# Altium integrated library Maxim Real-Time Clocks (RTCs).IntLib: 548 symbols (part 1 of 13)
Pins are listed as number, name and electrical type; pins without a type are passive.

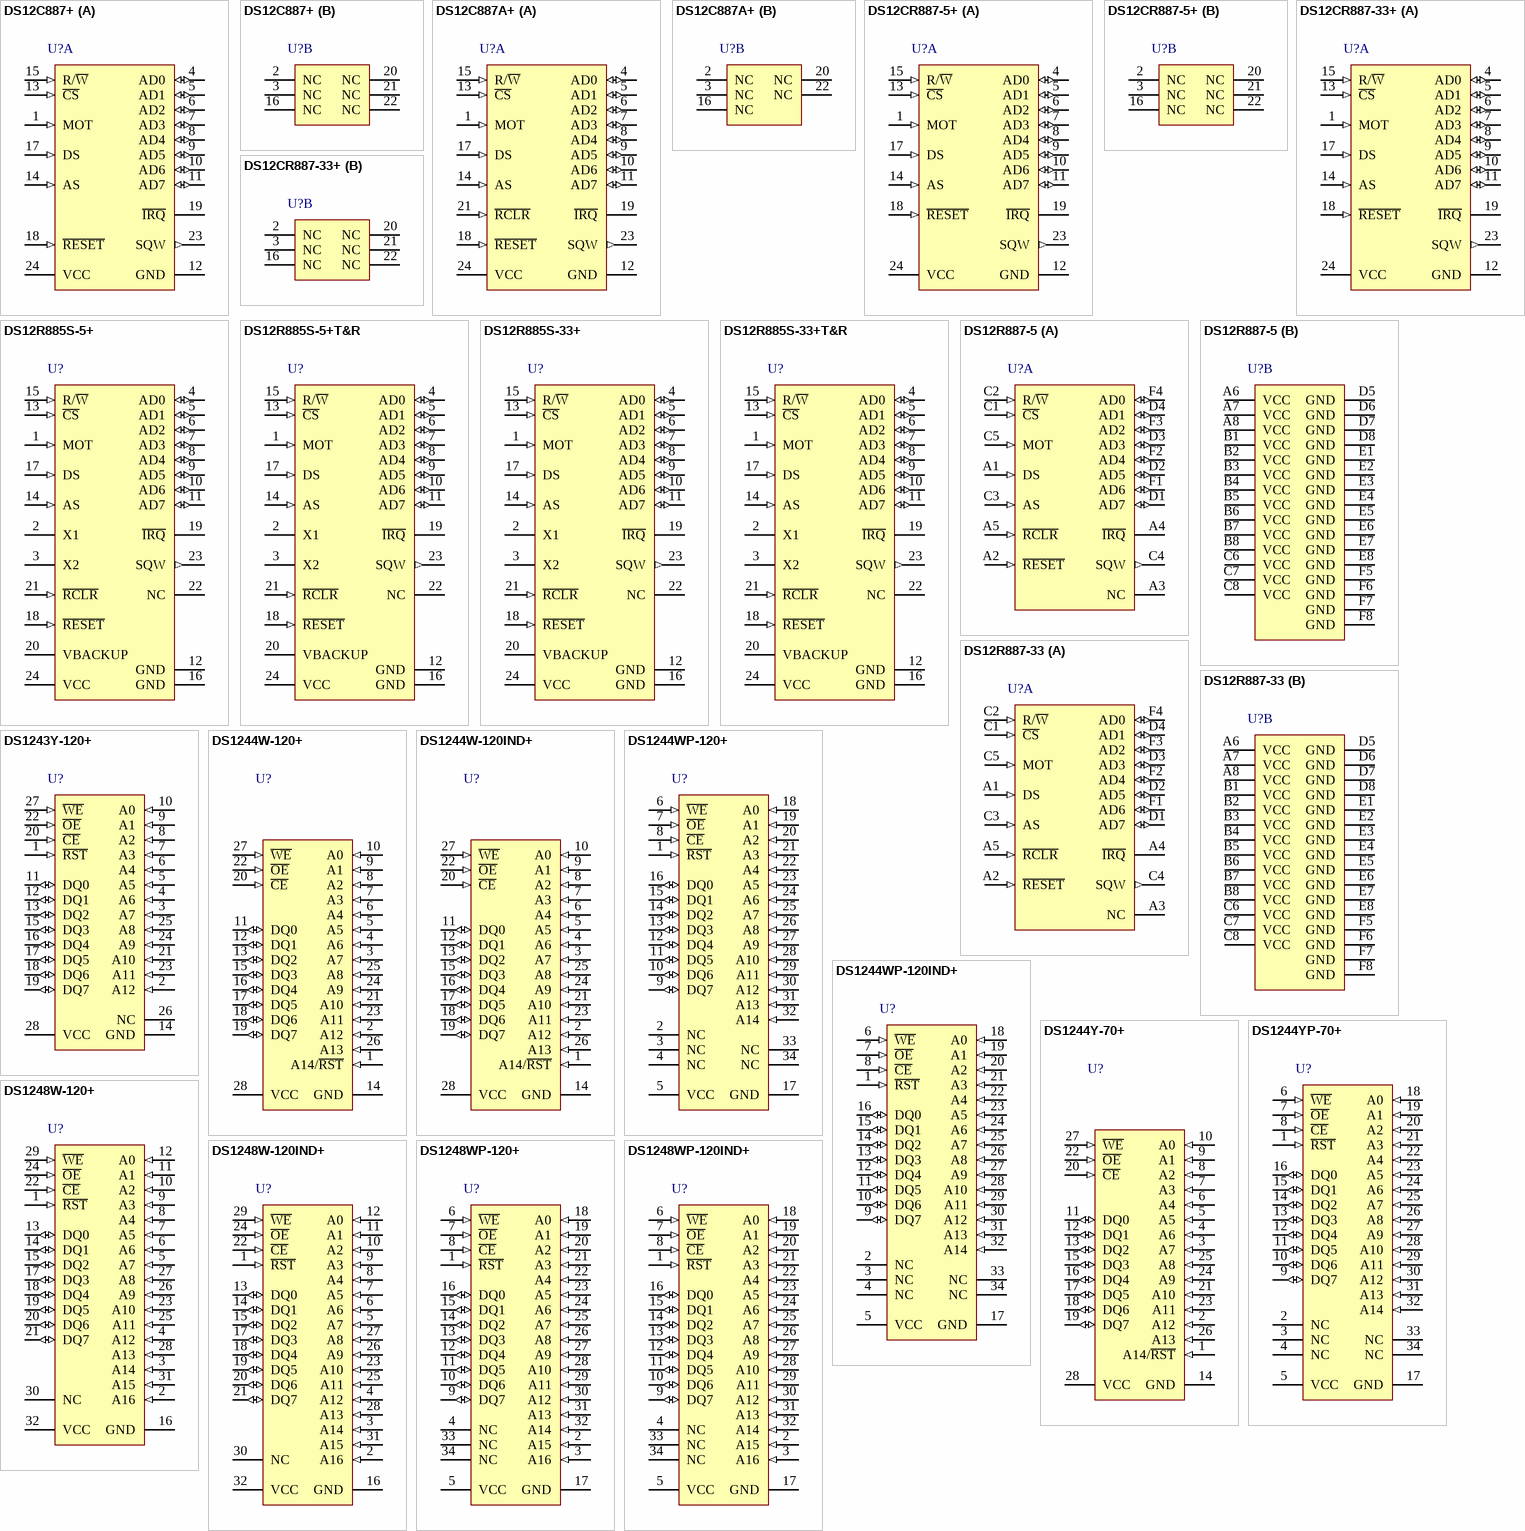
[diagram p0: symbols DS12C887+ to DS1248WP-120IND+]

## DS12C887+
designator U?
Real-Time Clock, Integrated XTAL, 113 Byte Battery-Backed RAM, 24-Pin EDIP, 0 to 70 degC, Pb-Free; DatasheetVersion: rev4, Apr-2010; PackageVersion: revA, Feb-2009; PackageReference: MDP24+1; PackageDescription: 24-Pin Encapsulated Dual-In-Line Module, 2.54 mm Pitch, EDIP, 720-mil, Pb-Free; ComponentLink1Description: Manufacturer URL; ComponentLink1URL: http://www.maxim-ic.com; ComponentLink2Description: Datasheet; ComponentLink2URL: http://datasheets.maxim-ic.com/en/ds/DS12885-DS12C887A.pdf; ComponentLink3Description: Package Specification; ComponentLink3URL: http://pdfserv.maxim-ic.com/package_dwgs/21-0241.PDF
footprint MDP24+1 (DIP; 24 Rectangular Pins, Body 33.8x17.8mm, Row Space 15.24mm, Pitch 2.54mm)
part A pins: 1 MOT (in), 4 AD0 (io), 5 AD1 (io), 6 AD2 (io), 7 AD3 (io), 8 AD4 (io), 9 AD5 (io), 10 AD6 (io), 11 AD7 (io), 12 GND (power), 13 ~{CS} (in), 14 AS (in), 15 R/~{W} (in), 17 DS (in), 18 ~{RESET} (in), 19 ~{IRQ} (hiz), 23 SQW (out), 24 VCC (power)
part B pins: 2 NC, 3 NC, 16 NC, 20 NC, 21 NC, 22 NC

## DS12C887A+
designator U?
Real-Time Clock, Integrated XTAL, 113 Byte Battery-Backed RAM, 24-Pin EDIP, 0 to 70 degC, Pb-Free; DatasheetVersion: rev4, Apr-2010; PackageVersion: revA, Feb-2009; PackageReference: MDP24+1; PackageDescription: 24-Pin Encapsulated Dual-In-Line Module, 2.54 mm Pitch, EDIP, 720-mil, Pb-Free; ComponentLink1Description: Manufacturer URL; ComponentLink1URL: http://www.maxim-ic.com; ComponentLink2Description: Datasheet; ComponentLink2URL: http://datasheets.maxim-ic.com/en/ds/DS12885-DS12C887A.pdf; ComponentLink3Description: Package Specification; ComponentLink3URL: http://pdfserv.maxim-ic.com/package_dwgs/21-0241.PDF
footprint MDP24+1 (DIP; 24 Rectangular Pins, Body 33.8x17.8mm, Row Space 15.24mm, Pitch 2.54mm)
part A pins: 1 MOT (in), 4 AD0 (io), 5 AD1 (io), 6 AD2 (io), 7 AD3 (io), 8 AD4 (io), 9 AD5 (io), 10 AD6 (io), 11 AD7 (io), 12 GND (power), 13 ~{CS} (in), 14 AS (in), 15 R/~{W} (in), 17 DS (in), 18 ~{RESET} (in), 19 ~{IRQ} (hiz), 21 ~{RCLR} (in), 23 SQW (out), 24 VCC (power)
part B pins: 2 NC, 3 NC, 16 NC, 20 NC, 22 NC

## DS12CR887-5+
designator U?
Real-Time Clock with Constant-Voltage Trickle Charger, 5.0V, 24-Pin EDIP, -40 to 85 degC, Pb-Free; DatasheetVersion: rev6, Apr-2010; PackageVersion: revA, Feb-2009; PackageReference: MDP24+1; PackageDescription: 24-Pin Encapsulated Dual-In-Line Module, 2.54 mm Pitch, EDIP, 720-mil, Pb-Free; ComponentLink1Description: Manufacturer URL; ComponentLink1URL: http://www.maxim-ic.com; ComponentLink2Description: Datasheet; ComponentLink2URL: http://datasheets.maxim-ic.com/en/ds/DS12CR887-DS12R887.pdf; ComponentLink3Description: Package Specification; ComponentLink3URL: http://pdfserv.maxim-ic.com/package_dwgs/21-0241.PDF
footprint MDP24+1 (DIP; 24 Rectangular Pins, Body 33.8x17.8mm, Row Space 15.24mm, Pitch 2.54mm)
part A pins: 1 MOT (in), 4 AD0 (io), 5 AD1 (io), 6 AD2 (io), 7 AD3 (io), 8 AD4 (io), 9 AD5 (io), 10 AD6 (io), 11 AD7 (io), 12 GND (power), 13 ~{CS} (in), 14 AS (in), 15 R/~{W} (in), 17 DS (in), 18 ~{RESET}  (in), 19 ~{IRQ} (oc), 23 SQW (out), 24 VCC (power)
part B pins: 2 NC, 3 NC, 16 NC, 20 NC, 21 NC, 22 NC

## DS12CR887-33+
designator U?
Real-Time Clock with Constant-Voltage Trickle Charger, 3.3V, 24-Pin EDIP, -40 to 85 degC, Pb-Free; DatasheetVersion: rev6, Apr-2010; PackageVersion: revA, Feb-2009; PackageReference: MDP24+1; PackageDescription: 24-Pin Encapsulated Dual-In-Line Module, 2.54 mm Pitch, EDIP, 720-mil, Pb-Free; ComponentLink1Description: Manufacturer URL; ComponentLink1URL: http://www.maxim-ic.com; ComponentLink2Description: Datasheet; ComponentLink2URL: http://datasheets.maxim-ic.com/en/ds/DS12CR887-DS12R887.pdf; ComponentLink3Description: Package Specification; ComponentLink3URL: http://pdfserv.maxim-ic.com/package_dwgs/21-0241.PDF
footprint MDP24+1 (DIP; 24 Rectangular Pins, Body 33.8x17.8mm, Row Space 15.24mm, Pitch 2.54mm)
part A pins: 1 MOT (in), 4 AD0 (io), 5 AD1 (io), 6 AD2 (io), 7 AD3 (io), 8 AD4 (io), 9 AD5 (io), 10 AD6 (io), 11 AD7 (io), 12 GND (power), 13 ~{CS} (in), 14 AS (in), 15 R/~{W} (in), 17 DS (in), 18 ~{RESET}  (in), 19 ~{IRQ} (oc), 23 SQW (out), 24 VCC (power)
part B pins: 2 NC, 3 NC, 16 NC, 20 NC, 21 NC, 22 NC

## DS12R885S-5+
designator U?
Real-Time Clock with Constant-Voltage Trickle Charger, 5.0V, 24-Pin SO, -40 to 85 degC, Pb-Free; DatasheetVersion: rev6, Apr-2010; PackageVersion: revD, 2010; PackageReference: W24+1; PackageDescription: 24-Pin Small-Outline IC, Wide (0.3in), 1.27 mm Pitch, SOIC (W), Pb-Free; Code_JEDEC: MS-013-AD; ComponentLink1Description: Manufacturer URL; ComponentLink1URL: http://www.maxim-ic.com; ComponentLink2Description: Datasheet; ComponentLink2URL: http://datasheets.maxim-ic.com/en/ds/DS12CR887-DS12R887.pdf; ComponentLink3Description: Package Specification; ComponentLink3URL: http://pdfserv.maxim-ic.com/package_dwgs/21-0042.PDF
footprint W24+1_N (SOIC, 24-Leads, Body 15.4x7.5mm, Pitch 1.27mm, IPC Medium Density)
footprint W24+1_L (SOIC, 24-Leads, Body 15.4x7.5mm, Pitch 1.27mm, IPC High Density)
footprint W24+1_M (SOIC, 24-Leads, Body 15.4x7.5mm, Pitch 1.27mm, IPC Low Density)
pins: 1 MOT (in), 2 X1, 3 X2, 4 AD0 (io), 5 AD1 (io), 6 AD2 (io), 7 AD3 (io), 8 AD4 (io), 9 AD5 (io), 10 AD6 (io), 11 AD7 (io), 12 GND (power), 13 ~{CS} (in), 14 AS (in), 15 R/~{W} (in), 16 GND (power), 17 DS (in), 18 ~{RESET} (in), 19 ~{IRQ} (hiz), 20 VBACKUP (power), 21 ~{RCLR} (in), 22 NC, 23 SQW (out), 24 VCC (power)

## DS12R885S-5+T&R
designator U?
Real-Time Clock with Constant-Voltage Trickle Charger, 5.0V, 24-Pin SO, -40 to 85 degC, Pb-Free, Reel; DatasheetVersion: rev6, Apr-2010; PackageVersion: revD, 2010; PackageReference: W24+1; PackageDescription: 24-Pin Small-Outline IC, Wide (0.3in), 1.27 mm Pitch, SOIC (W), Pb-Free; Code_JEDEC: MS-013-AD; ComponentLink1Description: Manufacturer URL; ComponentLink1URL: http://www.maxim-ic.com; ComponentLink2Description: Datasheet; ComponentLink2URL: http://datasheets.maxim-ic.com/en/ds/DS12CR887-DS12R887.pdf; ComponentLink3Description: Package Specification; ComponentLink3URL: http://pdfserv.maxim-ic.com/package_dwgs/21-0042.PDF
footprint W24+1_N (SOIC, 24-Leads, Body 15.4x7.5mm, Pitch 1.27mm, IPC Medium Density)
footprint W24+1_L (SOIC, 24-Leads, Body 15.4x7.5mm, Pitch 1.27mm, IPC High Density)
footprint W24+1_M (SOIC, 24-Leads, Body 15.4x7.5mm, Pitch 1.27mm, IPC Low Density)
pins: 1 MOT (in), 2 X1, 3 X2, 4 AD0 (io), 5 AD1 (io), 6 AD2 (io), 7 AD3 (io), 8 AD4 (io), 9 AD5 (io), 10 AD6 (io), 11 AD7 (io), 12 GND (power), 13 ~{CS} (in), 14 AS (in), 15 R/~{W} (in), 16 GND (power), 17 DS (in), 18 ~{RESET} (in), 19 ~{IRQ} (hiz), 20 VBACKUP (power), 21 ~{RCLR} (in), 22 NC, 23 SQW (out), 24 VCC (power)

## DS12R885S-33+
designator U?
Real-Time Clock with Constant-Voltage Trickle Charger, 3.3V, 24-Pin SO, -40 to 85 degC, Pb-Free; DatasheetVersion: rev6, Apr-2010; PackageVersion: revD, 2010; PackageReference: W24+1; PackageDescription: 24-Pin Small-Outline IC, Wide (0.3in), 1.27 mm Pitch, SOIC (W), Pb-Free; Code_JEDEC: MS-013-AD; ComponentLink1Description: Manufacturer URL; ComponentLink1URL: http://www.maxim-ic.com; ComponentLink2Description: Datasheet; ComponentLink2URL: http://datasheets.maxim-ic.com/en/ds/DS12CR887-DS12R887.pdf; ComponentLink3Description: Package Specification; ComponentLink3URL: http://pdfserv.maxim-ic.com/package_dwgs/21-0042.PDF
footprint W24+1_N (SOIC, 24-Leads, Body 15.4x7.5mm, Pitch 1.27mm, IPC Medium Density)
footprint W24+1_L (SOIC, 24-Leads, Body 15.4x7.5mm, Pitch 1.27mm, IPC High Density)
footprint W24+1_M (SOIC, 24-Leads, Body 15.4x7.5mm, Pitch 1.27mm, IPC Low Density)
pins: 1 MOT (in), 2 X1, 3 X2, 4 AD0 (io), 5 AD1 (io), 6 AD2 (io), 7 AD3 (io), 8 AD4 (io), 9 AD5 (io), 10 AD6 (io), 11 AD7 (io), 12 GND (power), 13 ~{CS} (in), 14 AS (in), 15 R/~{W} (in), 16 GND (power), 17 DS (in), 18 ~{RESET} (in), 19 ~{IRQ} (hiz), 20 VBACKUP (power), 21 ~{RCLR} (in), 22 NC, 23 SQW (out), 24 VCC (power)

## DS12R885S-33+T&R
designator U?
Real-Time Clock with Constant-Voltage Trickle Charger, 3.3V, 24-Pin SO, -40 to 85 degC, Pb-Free, Reel; DatasheetVersion: rev6, Apr-2010; PackageVersion: revD, 2010; PackageReference: W24+1; PackageDescription: 24-Pin Small-Outline IC, Wide (0.3in), 1.27 mm Pitch, SOIC (W), Pb-Free; Code_JEDEC: MS-013-AD; ComponentLink1Description: Manufacturer URL; ComponentLink1URL: http://www.maxim-ic.com; ComponentLink2Description: Datasheet; ComponentLink2URL: http://datasheets.maxim-ic.com/en/ds/DS12CR887-DS12R887.pdf; ComponentLink3Description: Package Specification; ComponentLink3URL: http://pdfserv.maxim-ic.com/package_dwgs/21-0042.PDF
footprint W24+1_N (SOIC, 24-Leads, Body 15.4x7.5mm, Pitch 1.27mm, IPC Medium Density)
footprint W24+1_L (SOIC, 24-Leads, Body 15.4x7.5mm, Pitch 1.27mm, IPC High Density)
footprint W24+1_M (SOIC, 24-Leads, Body 15.4x7.5mm, Pitch 1.27mm, IPC Low Density)
pins: 1 MOT (in), 2 X1, 3 X2, 4 AD0 (io), 5 AD1 (io), 6 AD2 (io), 7 AD3 (io), 8 AD4 (io), 9 AD5 (io), 10 AD6 (io), 11 AD7 (io), 12 GND (power), 13 ~{CS} (in), 14 AS (in), 15 R/~{W} (in), 16 GND (power), 17 DS (in), 18 ~{RESET} (in), 19 ~{IRQ} (hiz), 20 VBACKUP (power), 21 ~{RCLR} (in), 22 NC, 23 SQW (out), 24 VCC (power)

## DS12R887-5
designator U?
Real-Time Clock with Constant-Voltage Trickle Charger, 5.0V, 48-Pin PBGA, -40 to 85 degC; DatasheetVersion: rev6, Apr-2010; PackageVersion: revC, Dec-2011; PackageReference: V48-H1; PackageDescription: 48-Ball PBGA, 11.80 x 15.30 x 3.66 mm Body, 1.27 mm Pitch, with Crystal; ComponentLink1Description: Manufacturer URL; ComponentLink1URL: http://www.maxim-ic.com; ComponentLink2Description: Datasheet; ComponentLink2URL: http://datasheets.maxim-ic.com/en/ds/DS12CR887-DS12R887.pdf; ComponentLink3Description: Package Specification; ComponentLink3URL: http://pdfserv.maxim-ic.com/package_dwgs/21-0364.PDF
footprint V48-H1 (BGA, 48-Leads, Body 15.3x11.8mm, Pitch 1.27mm)
part A pins: A1 DS (in), A2 ~{RESET} (in), A3 NC, A4 ~{IRQ} (hiz), A5 ~{RCLR} (in), C1 ~{CS} (in), C2 R/~{W} (in), C3 AS (in), C4 SQW (out), C5 MOT (in), D1 AD7 (io), D2 AD5 (io), D3 AD3 (io), D4 AD1 (io), F1 AD6 (io), F2 AD4 (io), F3 AD2 (io), F4 AD0 (io)
part B pins: A6 VCC (power), A7 VCC (power), A8 VCC (power), B1 VCC (power), B2 VCC (power), B3 VCC (power), B4 VCC (power), B5 VCC (power), B6 VCC (power), B7 VCC (power), B8 VCC (power), C6 VCC (power), C7 VCC (power), C8 VCC (power), D5 GND (power), D6 GND (power), D7 GND (power), D8 GND (power), E1 GND (power), E2 GND (power), E3 GND (power), E4 GND (power), E5 GND (power), E6 GND (power), E7 GND (power), E8 GND (power), F5 GND (power), F6 GND (power), F7 GND (power), F8 GND (power)

## DS12R887-33
designator U?
Real-Time Clock with Constant-Voltage Trickle Charger, 3.3V, 48-Pin PBGA, -40 to 85 degC; DatasheetVersion: rev6, Apr-2010; PackageVersion: revC, Dec-2011; PackageReference: V48-H1; PackageDescription: 48-Ball PBGA, 11.80 x 15.30 x 3.66 mm Body, 1.27 mm Pitch, with Crystal; ComponentLink1Description: Manufacturer URL; ComponentLink1URL: http://www.maxim-ic.com; ComponentLink2Description: Datasheet; ComponentLink2URL: http://datasheets.maxim-ic.com/en/ds/DS12CR887-DS12R887.pdf; ComponentLink3Description: Package Specification; ComponentLink3URL: http://pdfserv.maxim-ic.com/package_dwgs/21-0364.PDF
footprint V48-H1 (BGA, 48-Leads, Body 15.3x11.8mm, Pitch 1.27mm)
part A pins: A1 DS (in), A2 ~{RESET} (in), A3 NC, A4 ~{IRQ} (hiz), A5 ~{RCLR} (in), C1 ~{CS} (in), C2 R/~{W} (in), C3 AS (in), C4 SQW (out), C5 MOT (in), D1 AD7 (io), D2 AD5 (io), D3 AD3 (io), D4 AD1 (io), F1 AD6 (io), F2 AD4 (io), F3 AD2 (io), F4 AD0 (io)
part B pins: A6 VCC (power), A7 VCC (power), A8 VCC (power), B1 VCC (power), B2 VCC (power), B3 VCC (power), B4 VCC (power), B5 VCC (power), B6 VCC (power), B7 VCC (power), B8 VCC (power), C6 VCC (power), C7 VCC (power), C8 VCC (power), D5 GND (power), D6 GND (power), D7 GND (power), D8 GND (power), E1 GND (power), E2 GND (power), E3 GND (power), E4 GND (power), E5 GND (power), E6 GND (power), E7 GND (power), E8 GND (power), F5 GND (power), F6 GND (power), F7 GND (power), F8 GND (power)

## DS1243Y-120+
designator U?
64K NV SRAM with Phantom Clock, 5.0V, 28-Pin EDIP, 0 to 70 degC, Pb-Free; DatasheetVersion: Nov-2011; PackageVersion: revA, Feb-2009; PackageReference: MDT28+1; PackageDescription: 28-Pin Encapsulated Dual-In-Line Module, 2.54 mm Pitch, EDIP, 720-mil, Pb-Free; ComponentLink1Description: Manufacturer URL; ComponentLink1URL: http://www.maxim-ic.com; ComponentLink2Description: Datasheet; ComponentLink2URL: http://datasheets.maxim-ic.com/en/ds/DS1243-DS1243Y.pdf; ComponentLink3Description: Package Specification; ComponentLink3URL: http://pdfserv.maxim-ic.com/package_dwgs/21-0245.PDF
footprint MDT28+1 (DIP, 28 Rectangular Pins, Body 38.2x17.8mm, Row Space 15.24mm, Pitch 2.54mm)
pins: 1 ~{RST} (in), 2 A12 (in), 3 A7 (in), 4 A6 (in), 5 A5 (in), 6 A4 (in), 7 A3 (in), 8 A2 (in), 9 A1 (in), 10 A0 (in), 11 DQ0 (io), 12 DQ1 (io), 13 DQ2 (io), 14 GND (power), 15 DQ3 (io), 16 DQ4 (io), 17 DQ5 (io), 18 DQ6 (io), 19 DQ7 (io), 20 ~{CE} (in), 21 A10 (in), 22 ~{OE} (in), 23 A11 (in), 24 A9 (in), 25 A8 (in), 26 NC, 27 ~{WE} (in), 28 VCC (power)

## DS1244W-120+
designator U?
256K NV SRAM with Phantom Clock, 3.3V, 28-Pin EDIP, 0 to 70 degC, Pb-Free; DatasheetVersion: Nov-2011; PackageVersion: revA, Feb-2009; PackageReference: MDT28+4; PackageDescription: 28-Pin Encapsulated Dual-In-Line Module, 2.54 mm Pitch, EDIP, 740-mil, Pb-Free; ComponentLink1Description: Manufacturer URL; ComponentLink1URL: http://www.maxim-ic.com; ComponentLink2Description: Datasheet; ComponentLink2URL: http://datasheets.maxim-ic.com/en/ds/DS1244-DS1244P.pdf; ComponentLink3Description: Package Specification; ComponentLink3URL: http://pdfserv.maxim-ic.com/package_dwgs/21-0245.PDF
footprint MDT28+4 (DIP, 28 Rectangular Pins, Body 38.2x18.5mm, Row Space 15.24mm, Pitch 2.54mm)
pins: 1 A14/~{RST} (in), 2 A12 (in), 3 A7 (in), 4 A6 (in), 5 A5 (in), 6 A4 (in), 7 A3 (in), 8 A2 (in), 9 A1 (in), 10 A0 (in), 11 DQ0 (io), 12 DQ1 (io), 13 DQ2 (io), 14 GND (power), 15 DQ3 (io), 16 DQ4 (io), 17 DQ5 (io), 18 DQ6 (io), 19 DQ7 (io), 20 ~{CE} (in), 21 A10 (in), 22 ~{OE} (in), 23 A11 (in), 24 A9 (in), 25 A8 (in), 26 A13 (in), 27 ~{WE} (in), 28 VCC (power)

## DS1244W-120IND+
designator U?
256K NV SRAM with Phantom Clock, 3.3V, 28-Pin EDIP, -40 to 85 degC, Pb-Free; DatasheetVersion: Nov-2011; PackageVersion: revA, Feb-2009; PackageReference: MDT28+4; PackageDescription: 28-Pin Encapsulated Dual-In-Line Module, 2.54 mm Pitch, EDIP, 740-mil, Pb-Free; ComponentLink1Description: Manufacturer URL; ComponentLink1URL: http://www.maxim-ic.com; ComponentLink2Description: Datasheet; ComponentLink2URL: http://datasheets.maxim-ic.com/en/ds/DS1244-DS1244P.pdf; ComponentLink3Description: Package Specification; ComponentLink3URL: http://pdfserv.maxim-ic.com/package_dwgs/21-0245.PDF
footprint MDT28+4 (DIP, 28 Rectangular Pins, Body 38.2x18.5mm, Row Space 15.24mm, Pitch 2.54mm)
pins: 1 A14/~{RST} (in), 2 A12 (in), 3 A7 (in), 4 A6 (in), 5 A5 (in), 6 A4 (in), 7 A3 (in), 8 A2 (in), 9 A1 (in), 10 A0 (in), 11 DQ0 (io), 12 DQ1 (io), 13 DQ2 (io), 14 GND (power), 15 DQ3 (io), 16 DQ4 (io), 17 DQ5 (io), 18 DQ6 (io), 19 DQ7 (io), 20 ~{CE} (in), 21 A10 (in), 22 ~{OE} (in), 23 A11 (in), 24 A9 (in), 25 A8 (in), 26 A13 (in), 27 ~{WE} (in), 28 VCC (power)

## DS1244WP-120+
designator U?
256K NV SRAM with Phantom Clock, 3.3V, 34-Pin PowerCap, 0 to 70 degC, Pb-Free; DatasheetVersion: Nov-2011; PackageVersion: revA, 2004; PackageReference: PC2+4; PackageDescription: 34-Pin PowerCap 0.990 Module with Cap, PCAP, Pb-Free; ComponentLink1Description: Manufacturer URL; ComponentLink1URL: http://www.maxim-ic.com; ComponentLink2Description: Datasheet; ComponentLink2URL: http://datasheets.maxim-ic.com/en/ds/DS1244-DS1244P.pdf; ComponentLink3Description: Package Specification; ComponentLink3URL: http://pdfserv.maxim-ic.com/package_dwgs/21-0246.PDF
footprint PC2+4 (PowerCap Module with Cap, 34-Leads, Body 24.7 x.25.3mm, Pitch 1.27mm)
pins: 1 ~{RST} (in), 2 NC, 3 NC, 4 NC, 5 VCC (power), 6 ~{WE} (in), 7 ~{OE} (in), 8 ~{CE} (in), 9 DQ7 (io), 10 DQ6 (io), 11 DQ5 (io), 12 DQ4 (io), 13 DQ3 (io), 14 DQ2 (io), 15 DQ1 (io), 16 DQ0 (io), 17 GND (power), 18 A0 (in), 19 A1 (in), 20 A2 (in), 21 A3 (in), 22 A4 (in), 23 A5 (in), 24 A6 (in), 25 A7 (in), 26 A8 (in), 27 A9 (in), 28 A10 (in), 29 A11 (in), 30 A12 (in), 31 A13 (in), 32 A14 (in), 33 NC, 34 NC

## DS1244WP-120IND+
designator U?
256K NV SRAM with Phantom Clock, 3.3V, 34-Pin PowerCap, -40 to 85 degC, Pb-Free; DatasheetVersion: Nov-2011; PackageVersion: revA, 2004; PackageReference: PC2+4; PackageDescription: 34-Pin PowerCap 0.990 Module with Cap, PCAP, Pb-Free; ComponentLink1Description: Manufacturer URL; ComponentLink1URL: http://www.maxim-ic.com; ComponentLink2Description: Datasheet; ComponentLink2URL: http://datasheets.maxim-ic.com/en/ds/DS1244-DS1244P.pdf; ComponentLink3Description: Package Specification; ComponentLink3URL: http://pdfserv.maxim-ic.com/package_dwgs/21-0246.PDF
footprint PC2+4 (PowerCap Module with Cap, 34-Leads, Body 24.7 x.25.3mm, Pitch 1.27mm)
pins: 1 ~{RST} (in), 2 NC, 3 NC, 4 NC, 5 VCC (power), 6 ~{WE} (in), 7 ~{OE} (in), 8 ~{CE} (in), 9 DQ7 (io), 10 DQ6 (io), 11 DQ5 (io), 12 DQ4 (io), 13 DQ3 (io), 14 DQ2 (io), 15 DQ1 (io), 16 DQ0 (io), 17 GND (power), 18 A0 (in), 19 A1 (in), 20 A2 (in), 21 A3 (in), 22 A4 (in), 23 A5 (in), 24 A6 (in), 25 A7 (in), 26 A8 (in), 27 A9 (in), 28 A10 (in), 29 A11 (in), 30 A12 (in), 31 A13 (in), 32 A14 (in), 33 NC, 34 NC

## DS1244Y-70+
designator U?
256K NV SRAM with Phantom Clock, 5.0V, 28-Pin EDIP, 0 to 70 degC, Pb-Free; DatasheetVersion: Nov-2011; PackageVersion: revA, Feb-2009; PackageReference: MDT28+4; PackageDescription: 28-Pin Encapsulated Dual-In-Line Module, 2.54 mm Pitch, EDIP, 740-mil, Pb-Free; ComponentLink1Description: Manufacturer URL; ComponentLink1URL: http://www.maxim-ic.com; ComponentLink2Description: Datasheet; ComponentLink2URL: http://datasheets.maxim-ic.com/en/ds/DS1244-DS1244P.pdf; ComponentLink3Description: Package Specification; ComponentLink3URL: http://pdfserv.maxim-ic.com/package_dwgs/21-0245.PDF
footprint MDT28+4 (DIP, 28 Rectangular Pins, Body 38.2x18.5mm, Row Space 15.24mm, Pitch 2.54mm)
pins: 1 A14/~{RST} (in), 2 A12 (in), 3 A7 (in), 4 A6 (in), 5 A5 (in), 6 A4 (in), 7 A3 (in), 8 A2 (in), 9 A1 (in), 10 A0 (in), 11 DQ0 (io), 12 DQ1 (io), 13 DQ2 (io), 14 GND (power), 15 DQ3 (io), 16 DQ4 (io), 17 DQ5 (io), 18 DQ6 (io), 19 DQ7 (io), 20 ~{CE} (in), 21 A10 (in), 22 ~{OE} (in), 23 A11 (in), 24 A9 (in), 25 A8 (in), 26 A13 (in), 27 ~{WE} (in), 28 VCC (power)

## DS1244YP-70+
designator U?
256K NV SRAM with Phantom Clock, 5.0V, 34-Pin PowerCap, 0 to 70 degC, Pb-Free; DatasheetVersion: Nov-2011; PackageVersion: revA, 2004; PackageReference: PC2+4; PackageDescription: 34-Pin PowerCap 0.990 Module with Cap, PCAP, Pb-Free; ComponentLink1Description: Manufacturer URL; ComponentLink1URL: http://www.maxim-ic.com; ComponentLink2Description: Datasheet; ComponentLink2URL: http://datasheets.maxim-ic.com/en/ds/DS1244-DS1244P.pdf; ComponentLink3Description: Package Specification; ComponentLink3URL: http://pdfserv.maxim-ic.com/package_dwgs/21-0246.PDF
footprint PC2+4 (PowerCap Module with Cap, 34-Leads, Body 24.7 x.25.3mm, Pitch 1.27mm)
pins: 1 ~{RST} (in), 2 NC, 3 NC, 4 NC, 5 VCC (power), 6 ~{WE} (in), 7 ~{OE} (in), 8 ~{CE} (in), 9 DQ7 (io), 10 DQ6 (io), 11 DQ5 (io), 12 DQ4 (io), 13 DQ3 (io), 14 DQ2 (io), 15 DQ1 (io), 16 DQ0 (io), 17 GND (power), 18 A0 (in), 19 A1 (in), 20 A2 (in), 21 A3 (in), 22 A4 (in), 23 A5 (in), 24 A6 (in), 25 A7 (in), 26 A8 (in), 27 A9 (in), 28 A10 (in), 29 A11 (in), 30 A12 (in), 31 A13 (in), 32 A14 (in), 33 NC, 34 NC

## DS1248W-120+
designator U?
1024K NV SRAM with Phantom Clock, 3.3V, 32-Pin EDIP, 0 to 70 degC, Pb-Free; DatasheetVersion: Nov-2011; PackageVersion: revA, Feb-2009; PackageReference: MDT32+2; PackageDescription: 32-Pin Encapsulated Dual-In-Line Module, 2.54 mm Pitch, EDIP, Pb-Free; ComponentLink1Description: Manufacturer URL; ComponentLink1URL: http://www.maxim-ic.com; ComponentLink2Description: Datasheet; ComponentLink2URL: http://datasheets.maxim-ic.com/en/ds/DS1248-DS1248P.pdf; ComponentLink3Description: Package Specification; ComponentLink3URL: http://pdfserv.maxim-ic.com/package_dwgs/21-0245.PDF
footprint MDT32+2 (DIP, 32 Rectangular Pins, Body 43.1x18.5mm, Row Space 15.24mm, Pitch 2.54mm)
pins: 1 ~{RST} (in), 2 A16 (in), 3 A14 (in), 4 A12 (in), 5 A7 (in), 6 A6 (in), 7 A5 (in), 8 A4 (in), 9 A3 (in), 10 A2 (in), 11 A1 (in), 12 A0 (in), 13 DQ0 (io), 14 DQ1 (io), 15 DQ2 (io), 16 GND (power), 17 DQ3 (io), 18 DQ4 (io), 19 DQ5 (io), 20 DQ6 (io), 21 DQ7 (io), 22 ~{CE} (in), 23 A10 (in), 24 ~{OE} (in), 25 A11 (in), 26 A9 (in), 27 A8 (in), 28 A13 (in), 29 ~{WE} (in), 30 NC, 31 A15 (in), 32 VCC (power)

## DS1248W-120IND+
designator U?
1024K NV SRAM with Phantom Clock, 3.3V, 32-Pin EDIP, -40 to 85 degC, Pb-Free; DatasheetVersion: Nov-2011; PackageVersion: revA, Feb-2009; PackageReference: MDT32+2; PackageDescription: 32-Pin Encapsulated Dual-In-Line Module, 2.54 mm Pitch, EDIP, Pb-Free; ComponentLink1Description: Manufacturer URL; ComponentLink1URL: http://www.maxim-ic.com; ComponentLink2Description: Datasheet; ComponentLink2URL: http://datasheets.maxim-ic.com/en/ds/DS1248-DS1248P.pdf; ComponentLink3Description: Package Specification; ComponentLink3URL: http://pdfserv.maxim-ic.com/package_dwgs/21-0245.PDF
footprint MDT32+2 (DIP, 32 Rectangular Pins, Body 43.1x18.5mm, Row Space 15.24mm, Pitch 2.54mm)
pins: 1 ~{RST} (in), 2 A16 (in), 3 A14 (in), 4 A12 (in), 5 A7 (in), 6 A6 (in), 7 A5 (in), 8 A4 (in), 9 A3 (in), 10 A2 (in), 11 A1 (in), 12 A0 (in), 13 DQ0 (io), 14 DQ1 (io), 15 DQ2 (io), 16 GND (power), 17 DQ3 (io), 18 DQ4 (io), 19 DQ5 (io), 20 DQ6 (io), 21 DQ7 (io), 22 ~{CE} (in), 23 A10 (in), 24 ~{OE} (in), 25 A11 (in), 26 A9 (in), 27 A8 (in), 28 A13 (in), 29 ~{WE} (in), 30 NC, 31 A15 (in), 32 VCC (power)

## DS1248WP-120+
designator U?
1024K NV SRAM with Phantom Clock, 3.3V, 34-Pin PowerCap, 0 to 70 degC, Pb-Free; DatasheetVersion: Nov-2011; PackageVersion: revA, 2004; PackageReference: PC2+3; PackageDescription: 34-Pin PowerCap 0.990 Module with Cap, PCAP, Pb-Free; ComponentLink1Description: Manufacturer URL; ComponentLink1URL: http://www.maxim-ic.com; ComponentLink2Description: Datasheet; ComponentLink2URL: http://datasheets.maxim-ic.com/en/ds/DS1248-DS1248P.pdf; ComponentLink3Description: Package Specification; ComponentLink3URL: http://pdfserv.maxim-ic.com/package_dwgs/21-0246.PDF
footprint PC2+3 (PowerCap Module with Cap, 34-Leads, Body 24.7 x.25.3mm, Pitch 1.27mm)
pins: 1 ~{RST} (in), 2 A15 (in), 3 A16 (in), 4 NC, 5 VCC (power), 6 ~{WE} (in), 7 ~{OE} (in), 8 ~{CE} (in), 9 DQ7 (io), 10 DQ6 (io), 11 DQ5 (io), 12 DQ4 (io), 13 DQ3 (io), 14 DQ2 (io), 15 DQ1 (io), 16 DQ0 (io), 17 GND (power), 18 A0 (in), 19 A1 (in), 20 A2 (in), 21 A3 (in), 22 A4 (in), 23 A5 (in), 24 A6 (in), 25 A7 (in), 26 A8 (in), 27 A9 (in), 28 A10 (in), 29 A11 (in), 30 A12 (in), 31 A13 (in), 32 A14 (in), 33 NC, 34 NC

## DS1248WP-120IND+
designator U?
1024K NV SRAM with Phantom Clock, 3.3V, 34-Pin PowerCap, -40 to 85 degC, Pb-Free; DatasheetVersion: Nov-2011; PackageVersion: revA, 2004; PackageReference: PC2+3; PackageDescription: 34-Pin PowerCap 0.990 Module with Cap, PCAP, Pb-Free; ComponentLink1Description: Manufacturer URL; ComponentLink1URL: http://www.maxim-ic.com; ComponentLink2Description: Datasheet; ComponentLink2URL: http://datasheets.maxim-ic.com/en/ds/DS1248-DS1248P.pdf; ComponentLink3Description: Package Specification; ComponentLink3URL: http://pdfserv.maxim-ic.com/package_dwgs/21-0246.PDF
footprint PC2+3 (PowerCap Module with Cap, 34-Leads, Body 24.7 x.25.3mm, Pitch 1.27mm)
pins: 1 ~{RST} (in), 2 A15 (in), 3 A16 (in), 4 NC, 5 VCC (power), 6 ~{WE} (in), 7 ~{OE} (in), 8 ~{CE} (in), 9 DQ7 (io), 10 DQ6 (io), 11 DQ5 (io), 12 DQ4 (io), 13 DQ3 (io), 14 DQ2 (io), 15 DQ1 (io), 16 DQ0 (io), 17 GND (power), 18 A0 (in), 19 A1 (in), 20 A2 (in), 21 A3 (in), 22 A4 (in), 23 A5 (in), 24 A6 (in), 25 A7 (in), 26 A8 (in), 27 A9 (in), 28 A10 (in), 29 A11 (in), 30 A12 (in), 31 A13 (in), 32 A14 (in), 33 NC, 34 NC

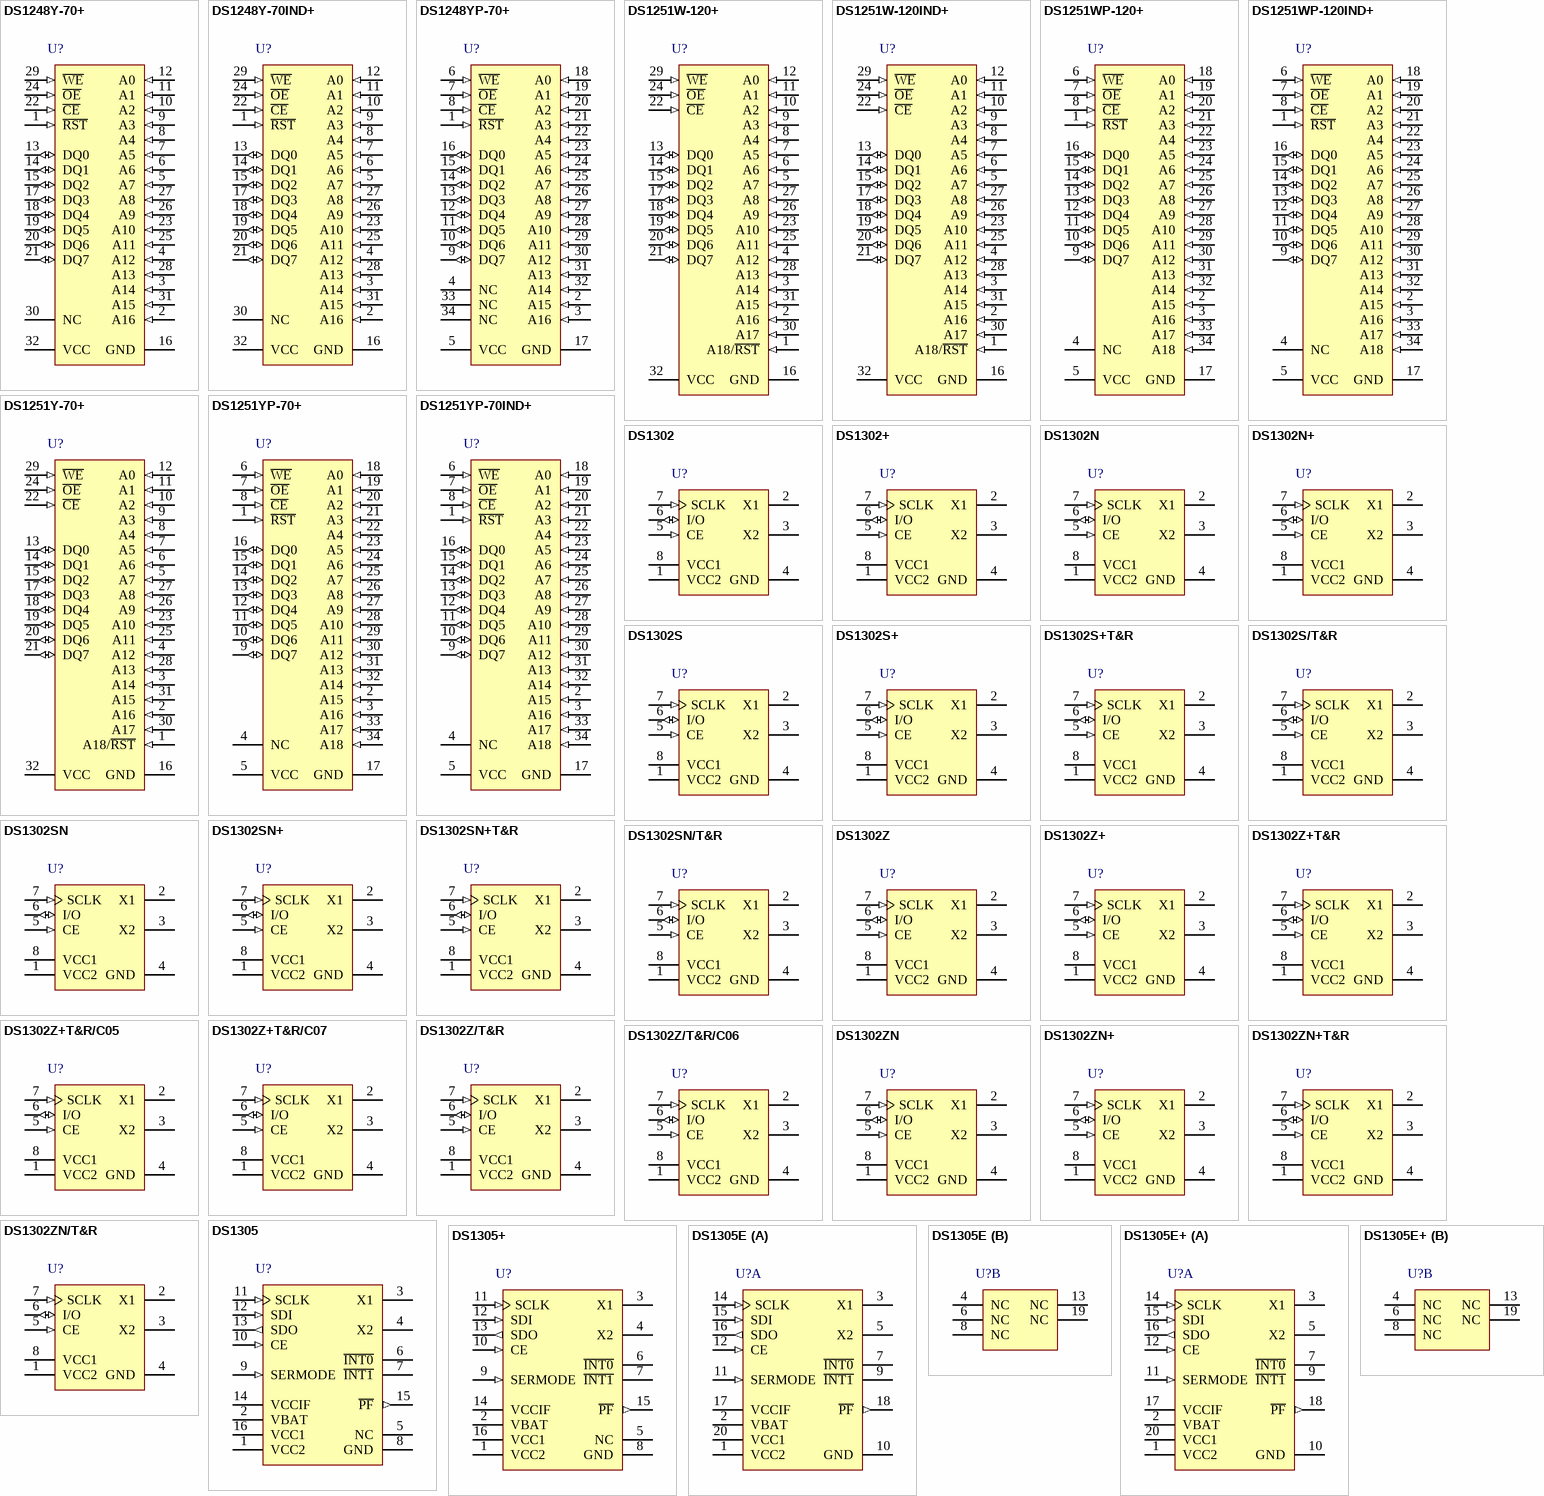
[diagram p1: symbols DS1248Y-70+ to DS1305E+]

## DS1248Y-70+
designator U?
1024K NV SRAM with Phantom Clock, 5.0V, 32-Pin EDIP, 0 to 70 degC, Pb-Free; DatasheetVersion: Nov-2011; PackageVersion: revA, Feb-2009; PackageReference: MDT32+2; PackageDescription: 32-Pin Encapsulated Dual-In-Line Module, 2.54 mm Pitch, EDIP, Pb-Free; ComponentLink1Description: Manufacturer URL; ComponentLink1URL: http://www.maxim-ic.com; ComponentLink2Description: Datasheet; ComponentLink2URL: http://datasheets.maxim-ic.com/en/ds/DS1248-DS1248P.pdf; ComponentLink3Description: Package Specification; ComponentLink3URL: http://pdfserv.maxim-ic.com/package_dwgs/21-0245.PDF
footprint MDT32+2 (DIP, 32 Rectangular Pins, Body 43.1x18.5mm, Row Space 15.24mm, Pitch 2.54mm)
pins: 1 ~{RST} (in), 2 A16 (in), 3 A14 (in), 4 A12 (in), 5 A7 (in), 6 A6 (in), 7 A5 (in), 8 A4 (in), 9 A3 (in), 10 A2 (in), 11 A1 (in), 12 A0 (in), 13 DQ0 (io), 14 DQ1 (io), 15 DQ2 (io), 16 GND (power), 17 DQ3 (io), 18 DQ4 (io), 19 DQ5 (io), 20 DQ6 (io), 21 DQ7 (io), 22 ~{CE} (in), 23 A10 (in), 24 ~{OE} (in), 25 A11 (in), 26 A9 (in), 27 A8 (in), 28 A13 (in), 29 ~{WE} (in), 30 NC, 31 A15 (in), 32 VCC (power)

## DS1248Y-70IND+
designator U?
1024K NV SRAM with Phantom Clock, 5.0V, 32-Pin EDIP, -40 to 85 degC, Pb-Free; DatasheetVersion: Nov-2011; PackageVersion: revA, Feb-2009; PackageReference: MDT32+2; PackageDescription: 32-Pin Encapsulated Dual-In-Line Module, 2.54 mm Pitch, EDIP, Pb-Free; ComponentLink1Description: Manufacturer URL; ComponentLink1URL: http://www.maxim-ic.com; ComponentLink2Description: Datasheet; ComponentLink2URL: http://datasheets.maxim-ic.com/en/ds/DS1248-DS1248P.pdf; ComponentLink3Description: Package Specification; ComponentLink3URL: http://pdfserv.maxim-ic.com/package_dwgs/21-0245.PDF
footprint MDT32+2 (DIP, 32 Rectangular Pins, Body 43.1x18.5mm, Row Space 15.24mm, Pitch 2.54mm)
pins: 1 ~{RST} (in), 2 A16 (in), 3 A14 (in), 4 A12 (in), 5 A7 (in), 6 A6 (in), 7 A5 (in), 8 A4 (in), 9 A3 (in), 10 A2 (in), 11 A1 (in), 12 A0 (in), 13 DQ0 (io), 14 DQ1 (io), 15 DQ2 (io), 16 GND (power), 17 DQ3 (io), 18 DQ4 (io), 19 DQ5 (io), 20 DQ6 (io), 21 DQ7 (io), 22 ~{CE} (in), 23 A10 (in), 24 ~{OE} (in), 25 A11 (in), 26 A9 (in), 27 A8 (in), 28 A13 (in), 29 ~{WE} (in), 30 NC, 31 A15 (in), 32 VCC (power)

## DS1248YP-70+
designator U?
1024K NV SRAM with Phantom Clock, 5.0V, 34-Pin PowerCap, 0 to 70 degC, Pb-Free; DatasheetVersion: Nov-2011; PackageVersion: revA, 2004; PackageReference: PC2+3; PackageDescription: 34-Pin PowerCap 0.990 Module with Cap, PCAP, Pb-Free; ComponentLink1Description: Manufacturer URL; ComponentLink1URL: http://www.maxim-ic.com; ComponentLink2Description: Datasheet; ComponentLink2URL: http://datasheets.maxim-ic.com/en/ds/DS1248-DS1248P.pdf; ComponentLink3Description: Package Specification; ComponentLink3URL: http://pdfserv.maxim-ic.com/package_dwgs/21-0246.PDF
footprint PC2+3 (PowerCap Module with Cap, 34-Leads, Body 24.7 x.25.3mm, Pitch 1.27mm)
pins: 1 ~{RST} (in), 2 A15 (in), 3 A16 (in), 4 NC, 5 VCC (power), 6 ~{WE} (in), 7 ~{OE} (in), 8 ~{CE} (in), 9 DQ7 (io), 10 DQ6 (io), 11 DQ5 (io), 12 DQ4 (io), 13 DQ3 (io), 14 DQ2 (io), 15 DQ1 (io), 16 DQ0 (io), 17 GND (power), 18 A0 (in), 19 A1 (in), 20 A2 (in), 21 A3 (in), 22 A4 (in), 23 A5 (in), 24 A6 (in), 25 A7 (in), 26 A8 (in), 27 A9 (in), 28 A10 (in), 29 A11 (in), 30 A12 (in), 31 A13 (in), 32 A14 (in), 33 NC, 34 NC

## DS1251W-120+
designator U?
4096K NV SRAM with Phantom Clock, 3.3V, 32-Pin EDIP, 0 to 70 degC, Pb-Free; DatasheetVersion: Nov-2011; PackageVersion: revA, Feb-2009; PackageReference: MDT32+5; PackageDescription: 32-Pin Encapsulated Dual-In-Line Module, 2.54 mm Pitch, EDIP, Pb-Free; ComponentLink1Description: Manufacturer URL; ComponentLink1URL: http://www.maxim-ic.com; ComponentLink2Description: Datasheet; ComponentLink2URL: http://datasheets.maxim-ic.com/en/ds/DS1251-DS1251P.pdf; ComponentLink3Description: Package Specification; ComponentLink3URL: http://pdfserv.maxim-ic.com/package_dwgs/21-0245.PDF
footprint MDT32+5 (DIP, 32 Rectangular Pins, Body 43.1x18.5mm, Row Space 15.24mm, Pitch 2.54mm)
pins: 1 A18/~{RST} (in), 2 A16 (in), 3 A14 (in), 4 A12 (in), 5 A7 (in), 6 A6 (in), 7 A5 (in), 8 A4 (in), 9 A3 (in), 10 A2 (in), 11 A1 (in), 12 A0 (in), 13 DQ0 (io), 14 DQ1 (io), 15 DQ2 (io), 16 GND (power), 17 DQ3 (io), 18 DQ4 (io), 19 DQ5 (io), 20 DQ6 (io), 21 DQ7 (io), 22 ~{CE} (in), 23 A10 (in), 24 ~{OE} (in), 25 A11 (in), 26 A9 (in), 27 A8 (in), 28 A13 (in), 29 ~{WE} (in), 30 A17 (in), 31 A15 (in), 32 VCC (power)

## DS1251W-120IND+
designator U?
4096K NV SRAM with Phantom Clock, 3.3V, 32-Pin EDIP, -40 to 85 degC, Pb-Free; DatasheetVersion: Nov-2011; PackageVersion: revA, Feb-2009; PackageReference: MDT32+5; PackageDescription: 32-Pin Encapsulated Dual-In-Line Module, 2.54 mm Pitch, EDIP, Pb-Free; ComponentLink1Description: Manufacturer URL; ComponentLink1URL: http://www.maxim-ic.com; ComponentLink2Description: Datasheet; ComponentLink2URL: http://datasheets.maxim-ic.com/en/ds/DS1251-DS1251P.pdf; ComponentLink3Description: Package Specification; ComponentLink3URL: http://pdfserv.maxim-ic.com/package_dwgs/21-0245.PDF
footprint MDT32+5 (DIP, 32 Rectangular Pins, Body 43.1x18.5mm, Row Space 15.24mm, Pitch 2.54mm)
pins: 1 A18/~{RST} (in), 2 A16 (in), 3 A14 (in), 4 A12 (in), 5 A7 (in), 6 A6 (in), 7 A5 (in), 8 A4 (in), 9 A3 (in), 10 A2 (in), 11 A1 (in), 12 A0 (in), 13 DQ0 (io), 14 DQ1 (io), 15 DQ2 (io), 16 GND (power), 17 DQ3 (io), 18 DQ4 (io), 19 DQ5 (io), 20 DQ6 (io), 21 DQ7 (io), 22 ~{CE} (in), 23 A10 (in), 24 ~{OE} (in), 25 A11 (in), 26 A9 (in), 27 A8 (in), 28 A13 (in), 29 ~{WE} (in), 30 A17 (in), 31 A15 (in), 32 VCC (power)

## DS1251WP-120+
designator U?
4096K NV SRAM with Phantom Clock, 3.3V, 34-Pin PowerCap, 0 to 70 degC, Pb-Free; DatasheetVersion: Nov-2011; PackageVersion: revA, 2004; PackageReference: PC2+5; PackageDescription: 34-Pin PowerCap 0.990 Module with Cap, PCAP, Pb-Free; ComponentLink1Description: Manufacturer URL; ComponentLink1URL: http://www.maxim-ic.com; ComponentLink2Description: Datasheet; ComponentLink2URL: http://datasheets.maxim-ic.com/en/ds/DS1251-DS1251P.pdf; ComponentLink3Description: Package Specification; ComponentLink3URL: http://pdfserv.maxim-ic.com/package_dwgs/21-0246.PDF
footprint PC2+5 (PowerCap Module with Cap, 34-Leads, Body 24.7 x.25.3mm, Pitch 1.27mm)
pins: 1 ~{RST} (in), 2 A15 (in), 3 A16 (in), 4 NC, 5 VCC (power), 6 ~{WE} (in), 7 ~{OE} (in), 8 ~{CE} (in), 9 DQ7 (io), 10 DQ6 (io), 11 DQ5 (io), 12 DQ4 (io), 13 DQ3 (io), 14 DQ2 (io), 15 DQ1 (io), 16 DQ0 (io), 17 GND (power), 18 A0 (in), 19 A1 (in), 20 A2 (in), 21 A3 (in), 22 A4 (in), 23 A5 (in), 24 A6 (in), 25 A7 (in), 26 A8 (in), 27 A9 (in), 28 A10 (in), 29 A11 (in), 30 A12 (in), 31 A13 (in), 32 A14 (in), 33 A17 (in), 34 A18 (in)

## DS1251WP-120IND+
designator U?
4096K NV SRAM with Phantom Clock, 3.3V, 34-Pin PowerCap, -40 to 85 degC, Pb-Free; DatasheetVersion: Nov-2011; PackageVersion: revA, 2004; PackageReference: PC2+5; PackageDescription: 34-Pin PowerCap 0.990 Module with Cap, PCAP, Pb-Free; ComponentLink1Description: Manufacturer URL; ComponentLink1URL: http://www.maxim-ic.com; ComponentLink2Description: Datasheet; ComponentLink2URL: http://datasheets.maxim-ic.com/en/ds/DS1251-DS1251P.pdf; ComponentLink3Description: Package Specification; ComponentLink3URL: http://pdfserv.maxim-ic.com/package_dwgs/21-0246.PDF
footprint PC2+5 (PowerCap Module with Cap, 34-Leads, Body 24.7 x.25.3mm, Pitch 1.27mm)
pins: 1 ~{RST} (in), 2 A15 (in), 3 A16 (in), 4 NC, 5 VCC (power), 6 ~{WE} (in), 7 ~{OE} (in), 8 ~{CE} (in), 9 DQ7 (io), 10 DQ6 (io), 11 DQ5 (io), 12 DQ4 (io), 13 DQ3 (io), 14 DQ2 (io), 15 DQ1 (io), 16 DQ0 (io), 17 GND (power), 18 A0 (in), 19 A1 (in), 20 A2 (in), 21 A3 (in), 22 A4 (in), 23 A5 (in), 24 A6 (in), 25 A7 (in), 26 A8 (in), 27 A9 (in), 28 A10 (in), 29 A11 (in), 30 A12 (in), 31 A13 (in), 32 A14 (in), 33 A17 (in), 34 A18 (in)

## DS1251Y-70+
designator U?
4096K NV SRAM with Phantom Clock, 5.0V, 32-Pin EDIP, 0 to 70 degC, Pb-Free; DatasheetVersion: Nov-2011; PackageVersion: revA, Feb-2009; PackageReference: MDT32+5; PackageDescription: 32-Pin Encapsulated Dual-In-Line Module, 2.54 mm Pitch, EDIP, Pb-Free; ComponentLink1Description: Manufacturer URL; ComponentLink1URL: http://www.maxim-ic.com; ComponentLink2Description: Datasheet; ComponentLink2URL: http://datasheets.maxim-ic.com/en/ds/DS1251-DS1251P.pdf; ComponentLink3Description: Package Specification; ComponentLink3URL: http://pdfserv.maxim-ic.com/package_dwgs/21-0245.PDF
footprint MDT32+5 (DIP, 32 Rectangular Pins, Body 43.1x18.5mm, Row Space 15.24mm, Pitch 2.54mm)
pins: 1 A18/~{RST} (in), 2 A16 (in), 3 A14 (in), 4 A12 (in), 5 A7 (in), 6 A6 (in), 7 A5 (in), 8 A4 (in), 9 A3 (in), 10 A2 (in), 11 A1 (in), 12 A0 (in), 13 DQ0 (io), 14 DQ1 (io), 15 DQ2 (io), 16 GND (power), 17 DQ3 (io), 18 DQ4 (io), 19 DQ5 (io), 20 DQ6 (io), 21 DQ7 (io), 22 ~{CE} (in), 23 A10 (in), 24 ~{OE} (in), 25 A11 (in), 26 A9 (in), 27 A8 (in), 28 A13 (in), 29 ~{WE} (in), 30 A17 (in), 31 A15 (in), 32 VCC (power)

## DS1251YP-70+
designator U?
4096K NV SRAM with Phantom Clock, 5.0V, 34-Pin PowerCap, 0 to 70 degC, Pb-Free; DatasheetVersion: Nov-2011; PackageVersion: revA, 2004; PackageReference: PC2+5; PackageDescription: 34-Pin PowerCap 0.990 Module with Cap, PCAP, Pb-Free; ComponentLink1Description: Manufacturer URL; ComponentLink1URL: http://www.maxim-ic.com; ComponentLink2Description: Datasheet; ComponentLink2URL: http://datasheets.maxim-ic.com/en/ds/DS1251-DS1251P.pdf; ComponentLink3Description: Package Specification; ComponentLink3URL: http://pdfserv.maxim-ic.com/package_dwgs/21-0246.PDF
footprint PC2+5 (PowerCap Module with Cap, 34-Leads, Body 24.7 x.25.3mm, Pitch 1.27mm)
pins: 1 ~{RST} (in), 2 A15 (in), 3 A16 (in), 4 NC, 5 VCC (power), 6 ~{WE} (in), 7 ~{OE} (in), 8 ~{CE} (in), 9 DQ7 (io), 10 DQ6 (io), 11 DQ5 (io), 12 DQ4 (io), 13 DQ3 (io), 14 DQ2 (io), 15 DQ1 (io), 16 DQ0 (io), 17 GND (power), 18 A0 (in), 19 A1 (in), 20 A2 (in), 21 A3 (in), 22 A4 (in), 23 A5 (in), 24 A6 (in), 25 A7 (in), 26 A8 (in), 27 A9 (in), 28 A10 (in), 29 A11 (in), 30 A12 (in), 31 A13 (in), 32 A14 (in), 33 A17 (in), 34 A18 (in)

## DS1251YP-70IND+
designator U?
4096K NV SRAM with Phantom Clock, 5.0V, 34-Pin PowerCap, -40 to 85 degC, Pb-Free; DatasheetVersion: Nov-2011; PackageVersion: revA, 2004; PackageReference: PC2-5; PackageDescription: 34-Pin PowerCap 0.990 Module with Cap, PCAP; ComponentLink1Description: Manufacturer URL; ComponentLink1URL: http://www.maxim-ic.com; ComponentLink2Description: Datasheet; ComponentLink2URL: http://datasheets.maxim-ic.com/en/ds/DS1251-DS1251P.pdf; ComponentLink3Description: Package Specification; ComponentLink3URL: http://pdfserv.maxim-ic.com/package_dwgs/21-0246.PDF
footprint PC2-5 (PowerCap Module with Cap, 34-Leads, Body 24.7 x.25.3mm, Pitch 1.27mm)
pins: 1 ~{RST} (in), 2 A15 (in), 3 A16 (in), 4 NC, 5 VCC (power), 6 ~{WE} (in), 7 ~{OE} (in), 8 ~{CE} (in), 9 DQ7 (io), 10 DQ6 (io), 11 DQ5 (io), 12 DQ4 (io), 13 DQ3 (io), 14 DQ2 (io), 15 DQ1 (io), 16 DQ0 (io), 17 GND (power), 18 A0 (in), 19 A1 (in), 20 A2 (in), 21 A3 (in), 22 A4 (in), 23 A5 (in), 24 A6 (in), 25 A7 (in), 26 A8 (in), 27 A9 (in), 28 A10 (in), 29 A11 (in), 30 A12 (in), 31 A13 (in), 32 A14 (in), 33 A17 (in), 34 A18 (in)

## DS1302
designator U?
Trickle-Charge Timekeeping Chip, 8-Pin PDIP, 0 to 70 degC; DatasheetVersion: 12-Feb-2008; PackageVersion: revE, 2011; PackageReference: P8-2; PackageDescription: 8-Pin Plastic Dual-In-Line, Narrow (0.3in), Pitch 2.54 mm, PDIP(N); Code_JEDEC: MS-001-AB; ComponentLink1Description: Manufacturer URL; ComponentLink1URL: http://www.maxim-ic.com; ComponentLink2Description: Datasheet; ComponentLink2URL: http://datasheets.maxim-ic.com/en/ds/DS1302.pdf; ComponentLink3Description: Package Specification; ComponentLink3URL: http://pdfserv.maxim-ic.com/package_dwgs/21-0043.PDF
footprint P8-2 (DIP, 8-Leads, Row Spacing 7.62mm, Pitch 2.54mm, Body 9.4x7mm)
pins: 1 VCC2 (power), 2 X1, 3 X2, 4 GND (power), 5 CE (in), 6 I/O (io), 7 SCLK (in), 8 VCC1 (power)

## DS1302+
designator U?
Trickle-Charge Timekeeping Chip, 8-Pin PDIP, 0 to 70 degC, Pb-Free; DatasheetVersion: 12-Feb-2008; PackageVersion: revE, 2011; PackageReference: P8+2; PackageDescription: 8-Pin Plastic Dual-In-Line, Narrow (0.3in), Pitch 2.54 mm, PDIP(N), Pb-Free; Code_JEDEC: MS-001-AB; ComponentLink1Description: Manufacturer URL; ComponentLink1URL: http://www.maxim-ic.com; ComponentLink2Description: Datasheet; ComponentLink2URL: http://datasheets.maxim-ic.com/en/ds/DS1302.pdf; ComponentLink3Description: Package Specification; ComponentLink3URL: http://pdfserv.maxim-ic.com/package_dwgs/21-0043.PDF
footprint P8+2 (DIP, 8-Leads, Row Spacing 7.62mm, Pitch 2.54mm, Body 9.4x7mm)
pins: 1 VCC2 (power), 2 X1, 3 X2, 4 GND (power), 5 CE (in), 6 I/O (io), 7 SCLK (in), 8 VCC1 (power)

## DS1302N
designator U?
Trickle-Charge Timekeeping Chip, 8-Pin PDIP, -40 to 85 degC; DatasheetVersion: 12-Feb-2008; PackageVersion: revE, 2011; PackageReference: P8-2; PackageDescription: 8-Pin Plastic Dual-In-Line, Narrow (0.3in), Pitch 2.54 mm, PDIP(N); Code_JEDEC: MS-001-AB; ComponentLink1Description: Manufacturer URL; ComponentLink1URL: http://www.maxim-ic.com; ComponentLink2Description: Datasheet; ComponentLink2URL: http://datasheets.maxim-ic.com/en/ds/DS1302.pdf; ComponentLink3Description: Package Specification; ComponentLink3URL: http://pdfserv.maxim-ic.com/package_dwgs/21-0043.PDF
footprint P8-2 (DIP, 8-Leads, Row Spacing 7.62mm, Pitch 2.54mm, Body 9.4x7mm)
pins: 1 VCC2 (power), 2 X1, 3 X2, 4 GND (power), 5 CE (in), 6 I/O (io), 7 SCLK (in), 8 VCC1 (power)

## DS1302N+
designator U?
Trickle-Charge Timekeeping Chip, 8-Pin PDIP, -40 to 85 degC, Pb-Free; DatasheetVersion: 12-Feb-2008; PackageVersion: revE, 2011; PackageReference: P8+2; PackageDescription: 8-Pin Plastic Dual-In-Line, Narrow (0.3in), Pitch 2.54 mm, PDIP(N), Pb-Free; Code_JEDEC: MS-001-AB; ComponentLink1Description: Manufacturer URL; ComponentLink1URL: http://www.maxim-ic.com; ComponentLink2Description: Datasheet; ComponentLink2URL: http://datasheets.maxim-ic.com/en/ds/DS1302.pdf; ComponentLink3Description: Package Specification; ComponentLink3URL: http://pdfserv.maxim-ic.com/package_dwgs/21-0043.PDF
footprint P8+2 (DIP, 8-Leads, Row Spacing 7.62mm, Pitch 2.54mm, Body 9.4x7mm)
pins: 1 VCC2 (power), 2 X1, 3 X2, 4 GND (power), 5 CE (in), 6 I/O (io), 7 SCLK (in), 8 VCC1 (power)

## DS1302S
designator U?
Trickle-Charge Timekeeping Chip, 8-Pin SO, 0 to 70 degC; DatasheetVersion: 12-Feb-2008; PackageVersion: revB, 2010; PackageReference: W8-2; PackageDescription: 8-Pin Small-Outline IC, 0.208in, 1.27 mm Pitch, SOIC; ComponentLink1Description: Manufacturer URL; ComponentLink1URL: http://www.maxim-ic.com; ComponentLink2Description: Datasheet; ComponentLink2URL: http://datasheets.maxim-ic.com/en/ds/DS1302.pdf; ComponentLink3Description: Package Specification; ComponentLink3URL: http://pdfserv.maxim-ic.com/package_dwgs/21-0262.PDF
footprint W8-2_N (SOP, 8-Leads, Body 5.3x5.3mm, Pitch 1.27mm, IPC Medium Density)
footprint W8-2_L (SOP, 8-Leads, Body 5.3x5.3mm, Pitch 1.27mm, IPC High Density)
footprint W8-2_M (SOP, 8-Leads, Body 5.3x5.3mm, Pitch 1.27mm, IPC Low Density)
pins: 1 VCC2 (power), 2 X1, 3 X2, 4 GND (power), 5 CE (in), 6 I/O (io), 7 SCLK (in), 8 VCC1 (power)

## DS1302S+
designator U?
Trickle-Charge Timekeeping Chip, 8-Pin SO, 0 to 70 degC, Pb-Free; DatasheetVersion: 12-Feb-2008; PackageVersion: revB, 2010; PackageReference: W8+2; PackageDescription: 8-Pin Small-Outline IC, 0.208in, 1.27 mm Pitch, SOIC, Pb-Free; ComponentLink1Description: Manufacturer URL; ComponentLink1URL: http://www.maxim-ic.com; ComponentLink2Description: Datasheet; ComponentLink2URL: http://datasheets.maxim-ic.com/en/ds/DS1302.pdf; ComponentLink3Description: Package Specification; ComponentLink3URL: http://pdfserv.maxim-ic.com/package_dwgs/21-0262.PDF
footprint W8+2_N (SOP, 8-Leads, Body 5.3x5.3mm, Pitch 1.27mm, IPC Medium Density)
footprint W8+2_L (SOP, 8-Leads, Body 5.3x5.3mm, Pitch 1.27mm, IPC High Density)
footprint W8+2_M (SOP, 8-Leads, Body 5.3x5.3mm, Pitch 1.27mm, IPC Low Density)
pins: 1 VCC2 (power), 2 X1, 3 X2, 4 GND (power), 5 CE (in), 6 I/O (io), 7 SCLK (in), 8 VCC1 (power)

## DS1302S+T&R
designator U?
Trickle-Charge Timekeeping Chip, 8-Pin SO, 0 to 70 degC, Pb-Free, Reel; DatasheetVersion: 12-Feb-2008; PackageVersion: revB, 2010; PackageReference: W8+2; PackageDescription: 8-Pin Small-Outline IC, 0.208in, 1.27 mm Pitch, SOIC, Pb-Free; ComponentLink1Description: Manufacturer URL; ComponentLink1URL: http://www.maxim-ic.com; ComponentLink2Description: Datasheet; ComponentLink2URL: http://datasheets.maxim-ic.com/en/ds/DS1302.pdf; ComponentLink3Description: Package Specification; ComponentLink3URL: http://pdfserv.maxim-ic.com/package_dwgs/21-0262.PDF
footprint W8+2_N (SOP, 8-Leads, Body 5.3x5.3mm, Pitch 1.27mm, IPC Medium Density)
footprint W8+2_L (SOP, 8-Leads, Body 5.3x5.3mm, Pitch 1.27mm, IPC High Density)
footprint W8+2_M (SOP, 8-Leads, Body 5.3x5.3mm, Pitch 1.27mm, IPC Low Density)
pins: 1 VCC2 (power), 2 X1, 3 X2, 4 GND (power), 5 CE (in), 6 I/O (io), 7 SCLK (in), 8 VCC1 (power)

## DS1302S/T&R
designator U?
Trickle-Charge Timekeeping Chip, 8-Pin SO, 0 to 70 degC, Reel; DatasheetVersion: 12-Feb-2008; PackageVersion: revB, 2010; PackageReference: W8-2; PackageDescription: 8-Pin Small-Outline IC, 0.208in, 1.27 mm Pitch, SOIC; ComponentLink1Description: Manufacturer URL; ComponentLink1URL: http://www.maxim-ic.com; ComponentLink2Description: Datasheet; ComponentLink2URL: http://datasheets.maxim-ic.com/en/ds/DS1302.pdf; ComponentLink3Description: Package Specification; ComponentLink3URL: http://pdfserv.maxim-ic.com/package_dwgs/21-0262.PDF
footprint W8-2_N (SOP, 8-Leads, Body 5.3x5.3mm, Pitch 1.27mm, IPC Medium Density)
footprint W8-2_L (SOP, 8-Leads, Body 5.3x5.3mm, Pitch 1.27mm, IPC High Density)
footprint W8-2_M (SOP, 8-Leads, Body 5.3x5.3mm, Pitch 1.27mm, IPC Low Density)
pins: 1 VCC2 (power), 2 X1, 3 X2, 4 GND (power), 5 CE (in), 6 I/O (io), 7 SCLK (in), 8 VCC1 (power)

## DS1302SN
designator U?
Trickle-Charge Timekeeping Chip, 8-Pin SO, -40 to 85 degC; DatasheetVersion: 12-Feb-2008; PackageVersion: revB, 2010; PackageReference: W8-2; PackageDescription: 8-Pin Small-Outline IC, 0.208in, 1.27 mm Pitch, SOIC; ComponentLink1Description: Manufacturer URL; ComponentLink1URL: http://www.maxim-ic.com; ComponentLink2Description: Datasheet; ComponentLink2URL: http://datasheets.maxim-ic.com/en/ds/DS1302.pdf; ComponentLink3Description: Package Specification; ComponentLink3URL: http://pdfserv.maxim-ic.com/package_dwgs/21-0262.PDF
footprint W8-2_N (SOP, 8-Leads, Body 5.3x5.3mm, Pitch 1.27mm, IPC Medium Density)
footprint W8-2_L (SOP, 8-Leads, Body 5.3x5.3mm, Pitch 1.27mm, IPC High Density)
footprint W8-2_M (SOP, 8-Leads, Body 5.3x5.3mm, Pitch 1.27mm, IPC Low Density)
pins: 1 VCC2 (power), 2 X1, 3 X2, 4 GND (power), 5 CE (in), 6 I/O (io), 7 SCLK (in), 8 VCC1 (power)

## DS1302SN+
designator U?
Trickle-Charge Timekeeping Chip, 8-Pin SO, -40 to 85 degC, Pb-Free; DatasheetVersion: 12-Feb-2008; PackageVersion: revB, 2010; PackageReference: W8+2; PackageDescription: 8-Pin Small-Outline IC, 0.208in, 1.27 mm Pitch, SOIC, Pb-Free; ComponentLink1Description: Manufacturer URL; ComponentLink1URL: http://www.maxim-ic.com; ComponentLink2Description: Datasheet; ComponentLink2URL: http://datasheets.maxim-ic.com/en/ds/DS1302.pdf; ComponentLink3Description: Package Specification; ComponentLink3URL: http://pdfserv.maxim-ic.com/package_dwgs/21-0262.PDF
footprint W8+2_N (SOP, 8-Leads, Body 5.3x5.3mm, Pitch 1.27mm, IPC Medium Density)
footprint W8+2_L (SOP, 8-Leads, Body 5.3x5.3mm, Pitch 1.27mm, IPC High Density)
footprint W8+2_M (SOP, 8-Leads, Body 5.3x5.3mm, Pitch 1.27mm, IPC Low Density)
pins: 1 VCC2 (power), 2 X1, 3 X2, 4 GND (power), 5 CE (in), 6 I/O (io), 7 SCLK (in), 8 VCC1 (power)

## DS1302SN+T&R
designator U?
Trickle-Charge Timekeeping Chip, 8-Pin SO, -40 to 85 degC, Pb-Free, Reel; DatasheetVersion: 12-Feb-2008; PackageVersion: revB, 2010; PackageReference: W8+2; PackageDescription: 8-Pin Small-Outline IC, 0.208in, 1.27 mm Pitch, SOIC, Pb-Free; ComponentLink1Description: Manufacturer URL; ComponentLink1URL: http://www.maxim-ic.com; ComponentLink2Description: Datasheet; ComponentLink2URL: http://datasheets.maxim-ic.com/en/ds/DS1302.pdf; ComponentLink3Description: Package Specification; ComponentLink3URL: http://pdfserv.maxim-ic.com/package_dwgs/21-0262.PDF
footprint W8+2_N (SOP, 8-Leads, Body 5.3x5.3mm, Pitch 1.27mm, IPC Medium Density)
footprint W8+2_L (SOP, 8-Leads, Body 5.3x5.3mm, Pitch 1.27mm, IPC High Density)
footprint W8+2_M (SOP, 8-Leads, Body 5.3x5.3mm, Pitch 1.27mm, IPC Low Density)
pins: 1 VCC2 (power), 2 X1, 3 X2, 4 GND (power), 5 CE (in), 6 I/O (io), 7 SCLK (in), 8 VCC1 (power)

## DS1302SN/T&R
designator U?
Trickle-Charge Timekeeping Chip, 8-Pin SO, -40 to 85 degC, Reel; DatasheetVersion: 12-Feb-2008; PackageVersion: revB, 2010; PackageReference: W8-2; PackageDescription: 8-Pin Small-Outline IC, 0.208in, 1.27 mm Pitch, SOIC; ComponentLink1Description: Manufacturer URL; ComponentLink1URL: http://www.maxim-ic.com; ComponentLink2Description: Datasheet; ComponentLink2URL: http://datasheets.maxim-ic.com/en/ds/DS1302.pdf; ComponentLink3Description: Package Specification; ComponentLink3URL: http://pdfserv.maxim-ic.com/package_dwgs/21-0262.PDF
footprint W8-2_N (SOP, 8-Leads, Body 5.3x5.3mm, Pitch 1.27mm, IPC Medium Density)
footprint W8-2_L (SOP, 8-Leads, Body 5.3x5.3mm, Pitch 1.27mm, IPC High Density)
footprint W8-2_M (SOP, 8-Leads, Body 5.3x5.3mm, Pitch 1.27mm, IPC Low Density)
pins: 1 VCC2 (power), 2 X1, 3 X2, 4 GND (power), 5 CE (in), 6 I/O (io), 7 SCLK (in), 8 VCC1 (power)

## DS1302Z
designator U?
Trickle-Charge Timekeeping Chip, 8-Pin SO, 0 to 70 degC; DatasheetVersion: 12-Feb-2008; PackageVersion: revC, 2010; PackageReference: S8-2; PackageDescription: 8-Pin Small-Outline IC, Narrow (0.15in), 1.27 mm Pitch, SOIC (N); Code_JEDEC: MS-012-AA; Code_IPC: SOIC127P600-8; ComponentLink1Description: Manufacturer URL; ComponentLink1URL: http://www.maxim-ic.com; ComponentLink2Description: Datasheet; ComponentLink2URL: http://datasheets.maxim-ic.com/en/ds/DS1302.pdf; ComponentLink3Description: Package Specification; ComponentLink3URL: http://pdfserv.maxim-ic.com/package_dwgs/21-0041.PDF
footprint S8-2_N (SOIC, 8-Leads, Body 4.9x3.9mm, Pitch 1.27mm, IPC Medium Density)
footprint S8-2_L (SOIC, 8-Leads, Body 4.9x3.9mm, Pitch 1.27mm, IPC High Density)
footprint S8-2_M (SOIC, 8-Leads, Body 4.9x3.9mm, Pitch 1.27mm, IPC Low Density)
pins: 1 VCC2 (power), 2 X1, 3 X2, 4 GND (power), 5 CE (in), 6 I/O (io), 7 SCLK (in), 8 VCC1 (power)

## DS1302Z+
designator U?
Trickle-Charge Timekeeping Chip, 8-Pin SO, 0 to 70 degC, Pb-Free; DatasheetVersion: 12-Feb-2008; PackageVersion: revC, 2010; PackageReference: S8+2; PackageDescription: 8-Pin Small-Outline IC, Narrow (0.15in), 1.27 mm Pitch, SOIC (N), Pb-Free; Code_JEDEC: MS-012-AA; Code_IPC: SOIC127P600-8; ComponentLink1Description: Manufacturer URL; ComponentLink1URL: http://www.maxim-ic.com; ComponentLink2Description: Datasheet; ComponentLink2URL: http://datasheets.maxim-ic.com/en/ds/DS1302.pdf; ComponentLink3Description: Package Specification; ComponentLink3URL: http://pdfserv.maxim-ic.com/package_dwgs/21-0041.PDF
footprint S8+2_N (SOIC, 8-Leads, Body 4.9x3.9mm, Pitch 1.27mm, IPC Medium Density)
footprint S8+2_L (SOIC, 8-Leads, Body 4.9x3.9mm, Pitch 1.27mm, IPC High Density)
footprint S8+2_M (SOIC, 8-Leads, Body 4.9x3.9mm, Pitch 1.27mm, IPC Low Density)
pins: 1 VCC2 (power), 2 X1, 3 X2, 4 GND (power), 5 CE (in), 6 I/O (io), 7 SCLK (in), 8 VCC1 (power)

## DS1302Z+T&R
designator U?
Trickle-Charge Timekeeping Chip, 8-Pin SO, 0 to 70 degC, Pb-Free, Reel; DatasheetVersion: 12-Feb-2008; PackageVersion: revC, 2010; PackageReference: S8+2; PackageDescription: 8-Pin Small-Outline IC, Narrow (0.15in), 1.27 mm Pitch, SOIC (N), Pb-Free; Code_JEDEC: MS-012-AA; Code_IPC: SOIC127P600-8; ComponentLink1Description: Manufacturer URL; ComponentLink1URL: http://www.maxim-ic.com; ComponentLink2Description: Datasheet; ComponentLink2URL: http://datasheets.maxim-ic.com/en/ds/DS1302.pdf; ComponentLink3Description: Package Specification; ComponentLink3URL: http://pdfserv.maxim-ic.com/package_dwgs/21-0041.PDF
footprint S8+2_N (SOIC, 8-Leads, Body 4.9x3.9mm, Pitch 1.27mm, IPC Medium Density)
footprint S8+2_L (SOIC, 8-Leads, Body 4.9x3.9mm, Pitch 1.27mm, IPC High Density)
footprint S8+2_M (SOIC, 8-Leads, Body 4.9x3.9mm, Pitch 1.27mm, IPC Low Density)
pins: 1 VCC2 (power), 2 X1, 3 X2, 4 GND (power), 5 CE (in), 6 I/O (io), 7 SCLK (in), 8 VCC1 (power)

## DS1302Z+T&R/C05
designator U?
Trickle-Charge Timekeeping Chip, 8-Pin SO, 0 to 70 degC, Pb-Free, Reel; DatasheetVersion: 12-Feb-2008; PackageVersion: revC, 2010; PackageReference: S8+2; PackageDescription: 8-Pin Small-Outline IC, Narrow (0.15in), 1.27 mm Pitch, SOIC (N), Pb-Free; Code_JEDEC: MS-012-AA; Code_IPC: SOIC127P600-8; ComponentLink1Description: Manufacturer URL; ComponentLink1URL: http://www.maxim-ic.com; ComponentLink2Description: Datasheet; ComponentLink2URL: http://datasheets.maxim-ic.com/en/ds/DS1302.pdf; ComponentLink3Description: Package Specification; ComponentLink3URL: http://pdfserv.maxim-ic.com/package_dwgs/21-0041.PDF
footprint S8+2_N (SOIC, 8-Leads, Body 4.9x3.9mm, Pitch 1.27mm, IPC Medium Density)
footprint S8+2_L (SOIC, 8-Leads, Body 4.9x3.9mm, Pitch 1.27mm, IPC High Density)
footprint S8+2_M (SOIC, 8-Leads, Body 4.9x3.9mm, Pitch 1.27mm, IPC Low Density)
pins: 1 VCC2 (power), 2 X1, 3 X2, 4 GND (power), 5 CE (in), 6 I/O (io), 7 SCLK (in), 8 VCC1 (power)